# Altium footprint library Lib Marius.PcbLib: 393 footprints (part 22 of 25)
Each footprint in its own frame and in the unit in brackets; x right, y up, seen from the top. Pads: shape width x height; smd on the part's side, far side on the other; paste and mask are expansions set on the pad; w line width, h text height; cw(c..) or ccw(c..) is an arc to the next point about the centre after c.
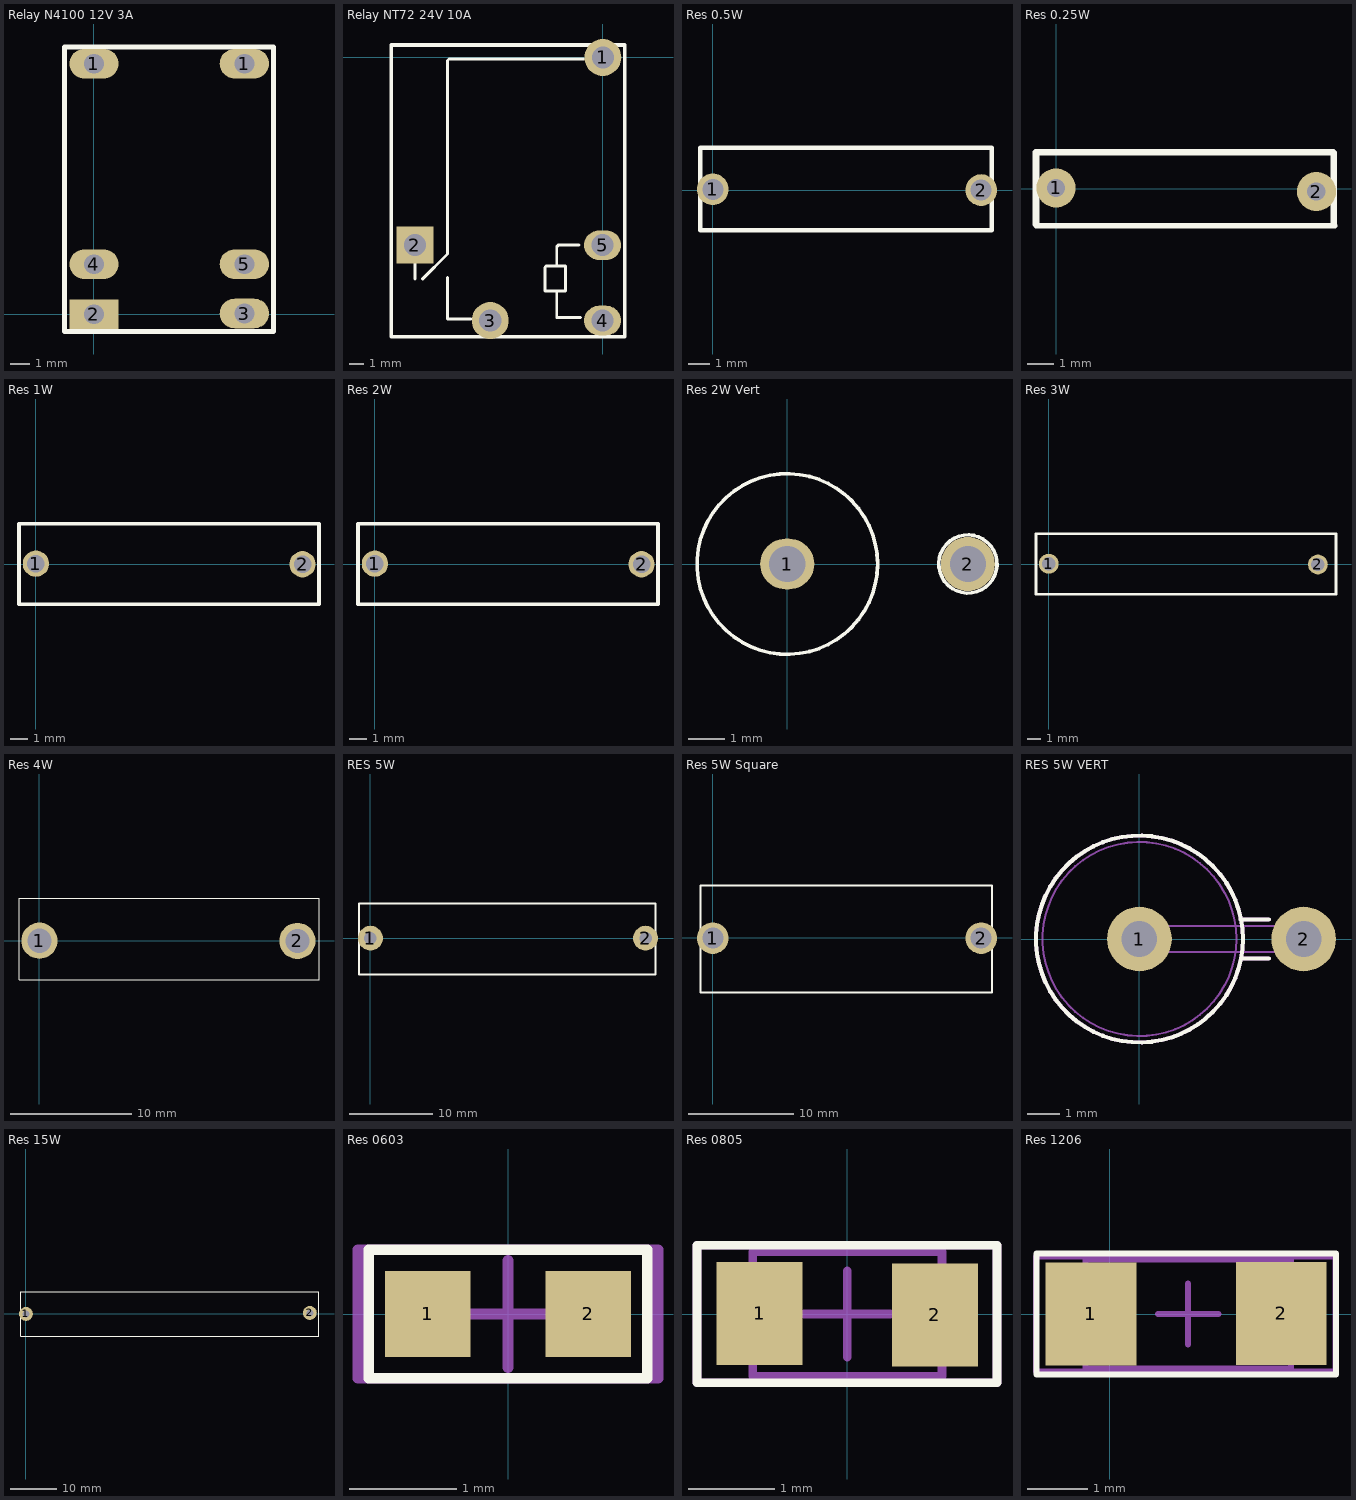
[diagram p21: the footprints below, top view; thin cyan lines are the x and y axes]

## Relay N4100 12V 3A [mm] "3A 12V STDP Relay"
height 10
pads (6):
  oval 2.5x1.5 hole 1: 1(0,12.7) 1(7.62,12.7) 3(7.62,0.04) 4(0,2.54) 5(7.62,2.54)
  rect 2.5x1.5 hole 1: 2(0,0)
Top Overlay:
  lines w0.254: -1.5,-0.86 9.1,-0.86 9.1,13.54 -1.5,13.54 -1.5,-0.86
3D body: height 10, standoff 0, extent -1.5,-0.86 9.1,13.54
3D body: height 11.5, standoff 0, extent -1.7,-1.06 9.3,13.74

## Relay NT72 24V 10A [mm] "10A 24V STDP Relay"
height 10
pads (5):
  round 2.5 hole 1.5: 1(0.02,0) 3(-7.6,-17.8)
  rect 2.5x2.5 hole 1.5: 2(-12.7,-12.7)
  oval 2.5x2 hole 1.5: 4(0,-17.8) 5(0,-12.7)
Top Overlay:
  lines w0.2: -12.7,-15 -12.7,-13.4 ; -12.2,-15 -10.5,-13.3 -10.5,-0.2 -10.4,-0.1 -9.4,-0.1 ; -10.5,-14.9 -10.5,-17.7 -8.9,-17.7 ; -9.5,-0.1 -1.3,-0.1 ; -3.2,-14.1 -2.5,-14.1 -2.5,-15.8 -3.9,-15.8 -3.9,-15.3 -3.9,-14.2 -3.8,-14.1 -3.1,-14.1 -3.1,-12.8 -3,-12.7 -1.6,-12.7 ; -3.1,-15.8 -3.1,-17.6 -1.5,-17.6
  lines w0.254: -14.3,-18.9 -14.3,0.84 1.5,0.84 1.5,-18.9 -14.3,-18.9
3D body: height 11.5, standoff 0, extent -9.3,-13.76 1.7,1.04
3D body: height 15, standoff 0, extent -14.2,-18.8 1.4,0.6

## Res 0.5W [mm] "Resistor 0.5W"
height 6
pads (2):
  round 1.5 hole 1: 1(0,0.032) 2(12.7,0)
Top Overlay:
  lines w0.2: -0.6,-1.9 -0.6,2 13.2,2 13.2,-1.9 -0.6,-1.9
3D body "Res 0.5W.STEP": height 5.38, standoff -1.07, extent -0.425,-1.85 13.025,1.9

## Res 0.25W [mm] "Resistor 0.25W"
height 6
pads (2):
  round 1.5 hole 0.7: 1(0,0.032) 2(9.962,-0.107)
Top Overlay:
  lines w0.2: -0.763,-1.415 10.667,-1.415
  lines w0.254: -0.766,-1.36 -0.766,1.399 ; -0.766,1.392 10.596,1.392 ; 10.625,-1.338 10.625,1.384
3D body "Res 0.25W.STEP": height 3.1, standoff -1, extent -0.393,-1.233 10.407,1.167

## Res 1W [mm] "Resistor 2W"
height 6
pads (2):
  round 1.5 hole 1: 1(0,0.032) 2(15.218,-0.001)
Top Overlay:
  lines w0.2: -0.965,-2.275 16.158,-2.275 16.158,2.303 -0.965,2.303 -0.965,-2.275
3D body "Res 1W.STEP": height 5, standoff -3, extent -0.37,-2.5 15.57,2.5

## Res 2W [mm] "Resistor 2W"
height 6
pads (2):
  round 1.5 hole 1: 1(0,0.032) 2(15.218,-0.001)
Top Overlay:
  lines w0.2: -0.965,-2.275 -0.965,2.303 16.158,2.303 16.158,-2.275 -0.965,-2.275
3D body "Res 2W.STEP": height 5, standoff -3, extent -0.408,-1.968 15.632,2.032

## Res 2W Vert [mm] "Diode, Thru-Hole; 2 Leads; 0.4 in Pin Spacing"
height 2.54
pads (2):
  oval 1.5x1.4 hole 1: 1(0,0)
  round 1.5 hole 1: 2(5,0)
Top Overlay:
  circle w0.1: c0,0 r2.5
  lines w0.1: 5.798,0.114 ccw(c5,0) 5.8,0.1
3D body "Res 2W Vert.STEP": height 20.3, standoff -3.1, extent -2.55,-2.6 5.35,2.4

## Res 3W [mm] "Resistor 3W"
height 6
pads (2):
  round 1.5 hole 1: 1(0,0.032) 2(20.321,-0.022)
Top Overlay:
  lines w0.2: -0.965,-2.275 -0.965,2.303 21.691,2.303 21.691,-2.275 -0.965,-2.275
3D body "Res 2W.STEP": height 5, standoff -3, extent 2.004,-2.089 18.043,1.911

## Res 4W [mm] "Resistor 5W"
height 6
pads (2):
  round 3 hole 2: 1(0,0) 2(21.358,-0.015)
Top Overlay:
  lines w0.1: -1.689,-3.215 -1.689,3.498 23.149,3.498 23.149,-3.215 -1.689,-3.215
3D body "Res 5W.STEP": height 9.3, standoff -1, extent -0.554,-3.173 21.646,3.427

## RES 5W [mm]
pads (2):
  round 3 hole 1.5 mask+0: 1(0,0) 2(33.2,0)
Top Overlay:
  lines w0.254: -0.5,4.2 -1.4,4.2 -1.4,-4.4 34.4,-4.4 34.4,4.2 -0.4,4.2
Mechanical 13:
  lines w0.065: 0,-0.4 0,0.4
3D body "Res 5W.STEP": height 10.35, standoff -3, extent -0.3,-4.55 33.52,4.15

## Res 5W Square [mm] "Resistor 5W Square"
height 6
pads (2):
  round 3 hole 2: 1(0.026,-0.034) 2(25.531,-0.034)
Top Overlay:
  lines w0.2: -1.127,-5.19 -1.127,4.952 26.549,4.952 26.549,-5.19 -1.127,-5.19
3D body "Res 5W Square.STEP": height 8.21, standoff -3.5, extent -0.461,-4.956 25.939,4.744

## RES 5W VERT [mm]
pads (2):
  round 2 hole 1.1 mask+0: 1(0,0) 2(5.08,0)
Top Overlay:
  circle w0.127: c0,0 r3.2
  lines w0.127: 3.125,0.6 4,0.6 ; 3.15,-0.6 4,-0.6
Mechanical 9:
  circle w0.127: c0,0 r3.2
  lines w0.127: 3.125,0.6 4,0.6 ; 3.15,-0.6 4,-0.6
Mechanical 13:
  circle w0.065: c0,0 r3
  lines w0.065: -0.05,0.4 ccw(c-0.053,0) -0.05,-0.4 5.05,-0.4 ccw(c5.053,0) 5.05,0.4 0,0.4
  text ".Designator" at -1.825,-1.887 h0.69
3D body "5w-wire-wound-resistor.stp": height 20.84, standoff -4.4, extent -2.981,-2.967 5.48,2.967

## Res 15W [mm] "Resistor 15W"
height 6
pads (2):
  round 3 hole 1.5: 1(0.026,-0.034) 2(61.2,0.186)
Top Overlay:
  lines w0.2: -1.127,-4.834 -1.127,4.718 63.181,4.718 63.181,-4.834 -1.127,-4.834
3D body "Res 15W.STEP": height 11.75, standoff -5, extent -0.092,-4.711 61.708,4.789

## Res 0603 [mm] "0603 Resistor 0.063W"
height 0.5
pads (2):
  rect 0.8x0.8 smd: 1(-0.75,0) 2(0.75,0)
Top Overlay:
  lines w0.1: -1.3,-0.6 -1.3,0.6 1.3,0.6 1.3,-0.6 -1.3,-0.6
Mechanical 1:
  lines w0.1: -1.3,-0.6 -1.3,0.6 ; 1.3,-0.6 1.3,0.6
Mechanical 13:
  lines w0.1: -1.3,-0.6 1.3,-0.6 ; -1.3,0.6 1.3,0.6
Mechanical 15:
  lines w0.1: -0.5,0 0.5,0 ; 0,-0.5 0,0.5 ; -1.4,-0.6 -1.4,0.6 1.4,0.6 1.4,-0.6 -1.4,-0.6
3D body "Res 0603.STEP": height 0.79, standoff 0, extent -0.948,-0.384 1.052,0.403

## Res 0805 [mm] "0805 Resistor 0.1W"
height 0.5
pads (2):
  rect 1x1.2 smd: 1(-1.022,0.007) 2(1.018,-0.011)
Top Overlay:
  lines w0.1: -1.75,-0.8 1.74,-0.8 1.74,0.8 -1.75,0.8 -1.75,-0.8
Mechanical 13:
  lines w0.1: -1.1,-0.725 -1.1,0.725 1.1,0.725 1.1,-0.725 -1.1,-0.725
Mechanical 15:
  lines w0.1: -0.5,0 0.5,0 ; 0,-0.5 0,0.5 ; -1.75,-0.8 -1.75,0.8 1.74,0.8 1.74,-0.8 -1.75,-0.8
3D body "Res 0805.STEP": height 0.79, standoff 0, extent -1.254,-0.622 1.254,0.622

## Res 1206 [mm] "1206 Resistor 0.125W"
height 0.5
pads (2):
  rect 1.5x1.7 smd: 1(-0.307,0) 2(2.838,0.01)
Top Overlay:
  lines w0.1: -1.207,-1 3.743,-1 3.743,1 -1.207,1 -1.207,-1
Mechanical 13:
  lines w0.1: -0.4,-0.9 -0.4,0.9 3,0.9 3,-0.9 -0.4,-0.9
Mechanical 15:
  lines w0.1: 0.8,0 1.8,0 ; 1.3,-0.5 1.3,0.5 ; -1.216,-0.95 -1.216,0.95 3.739,0.95 3.739,-0.95 -1.216,-0.95
3D body "Res 1206.STEP": height 1.53, standoff 0, extent -0.7,-0.8 3.3,0.8